# EAGLE library part SI8274 (library gate-driver)
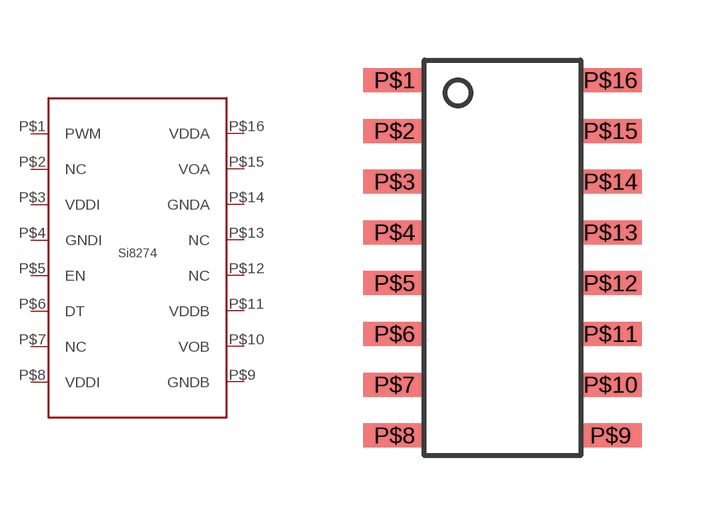
[diagram p0: symbol with the pads of SOIC-16; footprint SOIC-16]

Designator prefix -

## SI8274  [SOIC-16]
P$1  PWM
P$2  NC
P$3  VDDI
P$4  GNDI
P$5  EN
P$6  DT
P$7  NC
P$8  VDDI
P$9  GNDB
P$10  VOB
P$11  VDDB
P$12  NC
P$13  NC
P$14  GNDA
P$15  VOA
P$16  VDDA

## Footprint SOIC-16 (pad centres in mm)
smd 1.55 x 0.6: P$1 -2.7,4.445; P$2 -2.7,3.175; P$3 -2.7,1.905; P$4 -2.7,0.635; P$5 -2.7,-0.635; P$6 -2.7,-1.905; P$7 -2.7,-3.175; P$8 -2.7,-4.445; P$9 2.7,-4.445; P$10 2.7,-3.175; P$11 2.7,-1.905; P$12 2.7,-0.635; P$13 2.7,0.635; P$14 2.7,1.905; P$15 2.7,3.175; P$16 2.7,4.445